# EAGLE library part 74HC14D,652 (library 74HC14D_652)
74HC14D,652, Hex Schmitt Trigger Inverter, HC, 5.2mA 2 to 6V 14-Pin SOIC Source: Datasheet <http://www.nxp.com/documents/data_sheet/74HC_HCT14.pdf>
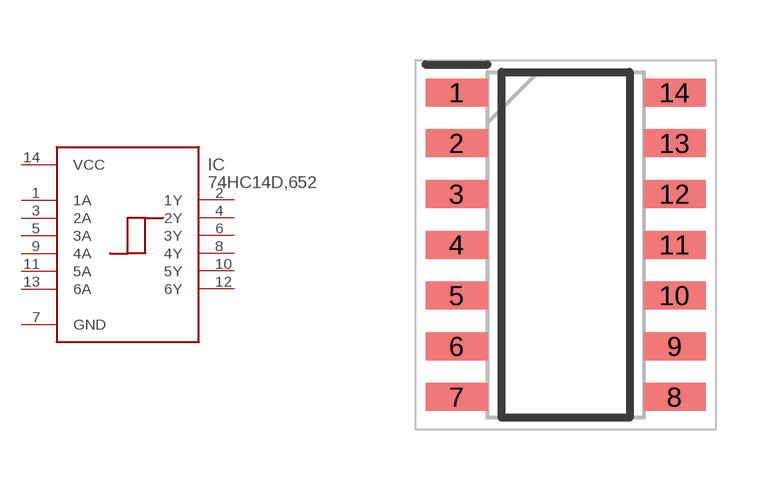
[diagram p0: symbol with the pads of SOIC127P600X175-14N; footprint SOIC127P600X175-14N]

Designator prefix IC

## 74HC14D,652 (ARROW_PART_NUMBER: 74HC14D,652; ARROW_PRICE-STOCK: https://www.arrow.com/en/products/74hc14d652/nexperia; DESCRIPTION: 74HC14D,652, Hex Schmitt Trigger Inverter, HC, 5.2mA 2 to 6V 14-Pin SOIC; HEIGHT: 1.75mm; MANUFACTURER_NAME: Nexperia; MANUFACTURER_PART_NUMBER: 74HC14D,652; MOUSER_PART_NUMBER: 771-HC14D652; MOUSER_PRICE-STOCK: https://www.mouser.co.uk/ProductDetail/Nexperia/74HC14D652?qs=P62ublwmbi%252BQ20gSGOwWdQ%3D%3D)  [SOIC127P600X175-14N]
1  1A
2  1Y
3  2A
4  2Y
5  3A
6  3Y
7  GND
8  4Y
9  4A
10  5Y
11  5A
12  6Y
13  6A
14  VCC

## Footprint SOIC127P600X175-14N (pad centres in mm)
SO14 (SOT108-1)
smd 1.55 x 0.7: 1 -2.725,3.81; 2 -2.725,2.54; 3 -2.725,1.27; 4 -2.725,0; 5 -2.725,-1.27; 6 -2.725,-2.54; 7 -2.725,-3.81; 8 2.725,-3.81; 9 2.725,-2.54; 10 2.725,-1.27; 11 2.725,0; 12 2.725,1.27; 13 2.725,2.54; 14 2.725,3.81